# Altium schematic symbol library DPGE-252-492R+.SchLib: 1 symbol
Pins are listed as number, name and electrical type; pins without a type are passive.

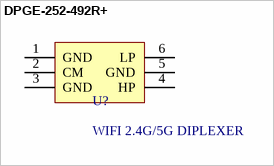
[diagram p0: symbol DPGE-252-492R+]

## DPGE-252-492R+
designator U?, comment WIFI 2.4G/5G DIPLEXER
pins: 1 GND (power), 2 CM (power), 3 GND (power), 4 HP (power), 5 GND (power), 6 LP (power)